# EAGLE library part PENKO_CON8 (library iMX233-OLINUXINO-MINI_Rev_C)
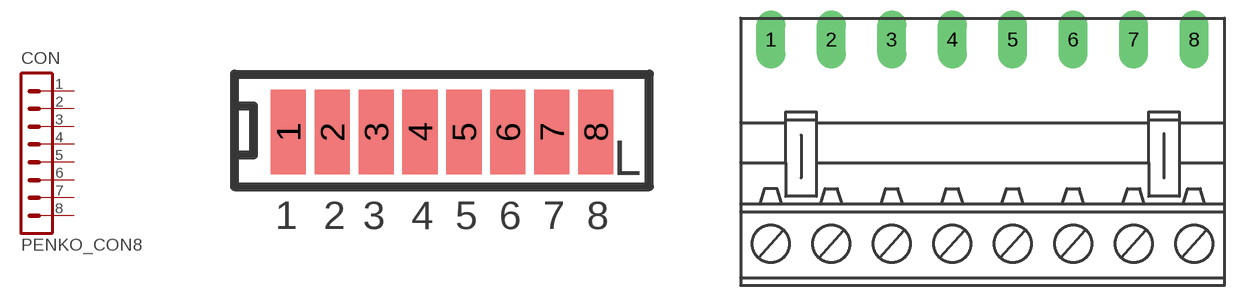
[diagram p8: symbol with the pads of PENKO_WU08S_SMD; footprints PENKO_WU08S_SMD, PENKO_HD-515R_8P]

Designator prefix CON

## PENKO_CON8  [PENKO_WU08S_SMD]
1  1  pas
2  2  pas
3  3  pas
4  4  pas
5  5  pas
6  6  pas
7  7  pas
8  8  pas

## PENKO_CON8HD-515R_8P  [PENKO_HD-515R_8P]
Pads as for PENKO_WU08S_SMD

## PENKO_CON8HN1X8  [PENKO_HN1X8]
Pads as for PENKO_WU08S_SMD

## PENKO_CON8PN1X8  [PENKO_PN1X8]
Pads as for PENKO_WU08S_SMD

## PENKO_CON8WF8R  [PENKO_WF8R]
Pads as for PENKO_WU08S_SMD

## PENKO_CON8WF8S  [PENKO_WF8S]
Pads as for PENKO_WU08S_SMD

## PENKO_CON8WU08S  [PENKO_WU08S]
Pads as for PENKO_WU08S_SMD

## Footprint PENKO_WU08S_SMD (pad centres in mm)
smd 1 x 2.4: 1 -4.375,0.625; 2 -3.125,0.625; 3 -1.875,0.625; 4 -0.625,0.625; 5 0.625,0.625; 6 1.875,0.625; 7 3.125,0.625; 8 4.375,0.625

## Footprint PENKO_HD-515R_8P (pad centres in mm)
HD-515R Series Manufacture: How Der Supplier: Comet Electronics Part Number: HD-515R 8P This is Male connector! It reqire HD-515H 8P Female connector! Eletrical Characteristics: - 10A, 300V AC Mechanical Characteristics: Pitch: 5mm; Dimensions: 40.08 x 12.20 x 8.00 mm
drill 1.6 long: 1 -17.5,8; 2 -12.5,8; 3 -7.5,8; 4 -2.5,8; 5 2.5,8; 6 7.5,8; 7 12.5,8; 8 17.5,8

## Footprint PENKO_HN1X8 (pad centres in mm)
CH31 Series Manufacture: CviLux Supplier: Comet Electronics Part Number: HN1x8 is part of HN1x40 This is Male connector! It reqires PN1x8 Female connector, which is part of PN1x40! Eletrical Characteristics: - 3A(per contact)/300 VAC Mechanical Characteristics: Pitch: 2.54mm(.100"); Dimensions: 20.14 x 2.54 x (6+2.54+3)=11.54 mm
drill 1.1 pad 1.778 square: 1 -8.89,0
drill 1.1 pad 1.778: 2 -6.35,0; 3 -3.81,0; 4 -1.27,0; 5 1.27,0; 6 3.81,0; 7 6.35,0; 8 8.89,0

## Footprint PENKO_PN1X8 (pad centres in mm)
CB39 Series 2.54mm(.100") Single Row Female Headers Manufacture: CviLux Supplier: Comet Electronics Part Number: PN1x8 is complete element! It is not part of other element This is Female connector! It reqires HN1x8 Male connector Eletrical Characteristics: - ??????? Mechanical Characteristics: Pitch: 2.54mm(.100"); Dimensions: 20.14 x 2.54 x 9.00 mm
drill 1.1 pad 1.778 square: 1 -8.89,0
drill 1.1 pad 1.778: 2 -6.35,0; 3 -3.81,0; 4 -1.27,0; 5 1.27,0; 6 3.81,0; 7 6.35,0; 8 8.89,0

## Footprint PENKO_WF8R (pad centres in mm)
CI31 Series 2.54mm(.100") DIP Headers Manifacture: CviLux, CI31 Series Supplier: Comet Electronics Part Number: WF8R This is Male connector! It reqire HU8 Female connector! Eletrical Characteristics: - 3A/250V Mechanical Characteristics: Pitch: 2.54mm Dimensions: 20.30 x 11.50 x 5.80 mm
drill 1.1 pad 1.778 square: 1 -8.89,0
drill 1.1 pad 1.778: 2 -6.35,0; 3 -3.81,0; 4 -1.27,0; 5 1.27,0; 6 3.81,0; 7 6.35,0; 8 8.89,0

## Footprint PENKO_WF8S (pad centres in mm)
CI31 Series 2.54mm(.100") DIP Headers Manifacture: CviLux, CI31 Series Supplier: Comet Electronics Part Number: WF8S This is Male connector! It reqire HU8 Female connector! Eletrical Characteristics: - 3A/250V Mechanical Characteristics: Pitch: 2.54mm Dimensions: 20.30 x 5.80 x 11.50 mm
drill 1.1 pad 1.778 square: 1 -8.89,0
drill 1.1 pad 1.778: 2 -6.35,0; 3 -3.81,0; 4 -1.27,0; 5 1.27,0; 6 3.81,0; 7 6.35,0; 8 8.89,0

## Footprint PENKO_WU08S (pad centres in mm)
CI44 Series 1.25mm(.049") Pin Header Manifacture: CviLux, CI44 Series Supplier: Comet Electronics Part Number: WU08S This is Male connector! It reqire SU08 Female connector! Eletrical Characteristics: - 1A/100V Mechanical Characteristics: Pitch: 1.25mm Dimensions: (11.80 x 3.20 x 4.70)mm
drill 0.6 pad 0.991 long: 1 -4.375,0; 2 -3.125,0; 3 -1.875,0; 4 -0.625,0; 5 0.625,0; 6 1.875,0; 7 3.125,0; 8 4.375,0